# Altium schematic symbol library Res_Stackpole_CF14JT10K0_eec.SchLib: 1 symbol
Pins are listed as number, name and electrical type; pins without a type are passive.

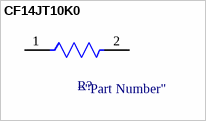
[diagram p0: symbol CF14JT10K0]

## CF14JT10K0
designator R?  (value not drawn)
pins: 1, 2